# Altium schematic symbol library Schematics.SchLib: 6 symbols
Pins are listed as number, name and electrical type; pins without a type are passive.

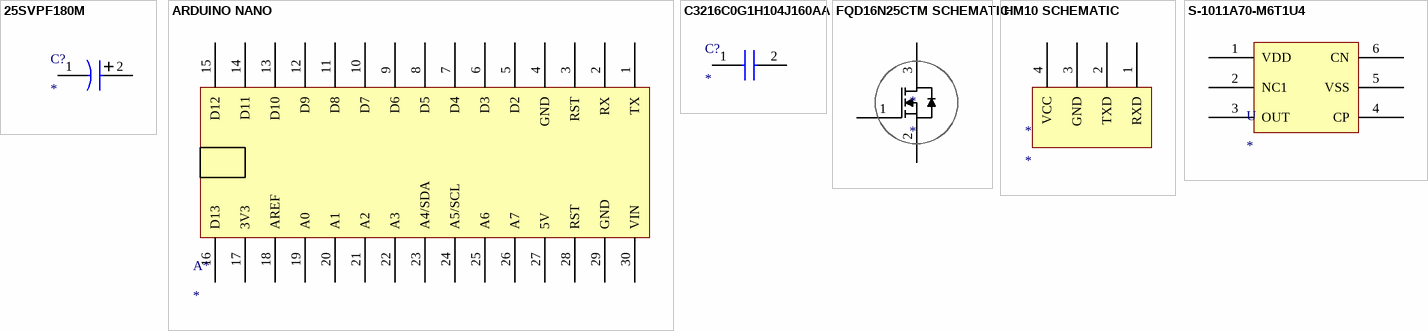
[diagram p0: symbols 25SVPF180M to S-1011A70-M6T1U4]

## 25SVPF180M
designator C?
Capacitor; Manufacturer_Name: Panasonic; Manufacturer_Part_Number: 25SVPF180M; Description: PANASONIC ELECTRONIC COMPONENTS - 25SVPF180M - CAP; Datasheet Link: https://componentsearchengine.com//25SVPF180M.pdf; Mouser2 Part Number: 667-25SVPF180M; Mouser2 Price/Stock: https://www.mouser.com/Search/Refine.aspx?Keyword=667-25SVPF180M
footprint FCV(8X10.2)
pins: 1 +, 2 -

## ARDUINO NANO
designator A*
footprint ARDUINO NANO
pins: 1 TX, 2 RX, 3 RST, 4 GND, 5 D2, 6 D3, 7 D4, 8 D5, 9 D6, 10 D7, 11 D8, 12 D9, 13 D10, 14 D11, 15 D12, 16 D13, 17 3V3, 18 AREF, 19 A0, 20 A1, 21 A2, 22 A3, 23 A4/SDA, 24 A5/SCL, 25 A6, 26 A7, 27 5V, 28 RST, 29 GND, 30 VIN

## C3216C0G1H104J160AA
designator C?
Capacitor; Manufacturer_Name: TDK; Manufacturer_Part_Number: C3216C0G1H104J160AA; Datasheet Link: https://product.tdk.com/system/files/dam/doc/product/capacitor/ceramic/mlcc/catalog/mlcc_commercial_general_en.pdf; Height: 0.75mm
footprint C3216_Commercial
pins: 1, 2

## FQD16N25CTM SCHEMATIC
designator *
footprint FQD16N25CTM (D-PAK, 3-Pads, Body 6.21x6.72mm (max), IPC Low Density)
pins: 1 21, 2 22, 3 20

## HM10 SCHEMATIC
designator *
footprint HM10
pins: 1 RXD, 2 TXD, 3 GND, 4 VCC

## S-1011A70-M6T1U4
designator U
footprint S-1011A70-M6T1U4 (SOT23, 6-Leads, Body 2.90x2.45mm, Pitch 0.95mm, IPC Low Density)
pins: 1 VDD, 2 NC1, 3 OUT, 4 CP, 5 VSS, 6 CN